# EAGLE library part SILICONLABS-BGM111 (library FaBo-BT)
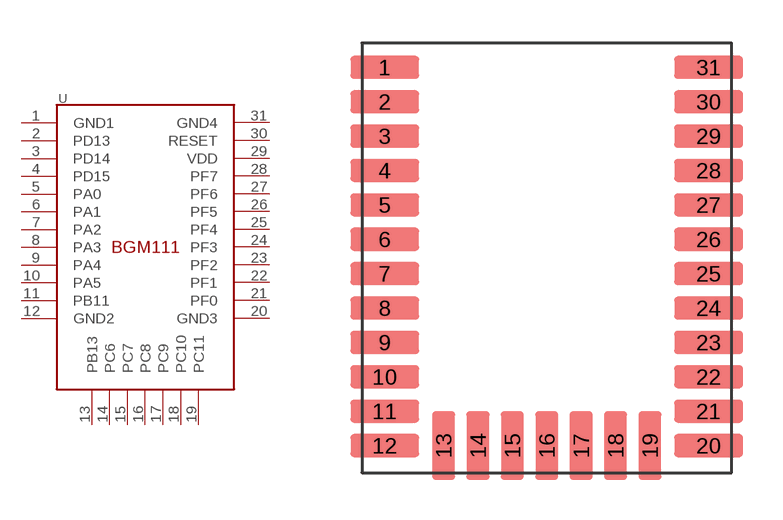
[diagram p8: symbol with the pads of SILICONLABS-BGM111; footprint SILICONLABS-BGM111]

Designator prefix -

## SILICONLABS-BGM111  [SILICONLABS-BGM111]
1  GND1
2  PD13
3  PD14
4  PD15
5  PA0
6  PA1
7  PA2
8  PA3
9  PA4
10  PA5
11  PB11
12  GND2
13  PB13
14  PC6
15  PC7
16  PC8
17  PC9
18  PC10
19  PC11
20  GND3
21  PF0
22  PF1
23  PF2
24  PF3
25  PF4
26  PF5
27  PF6
28  PF7
29  VDD
30  RESET
31  GND4

## Footprint SILICONLABS-BGM111 (pad centres in mm)
smd 2.4 x 0.8: 1 -5.65,6.65; 2 -5.65,5.45; 3 -5.65,4.25; 4 -5.65,3.05; 5 -5.65,1.85; 6 -5.65,0.65; 7 -5.65,-0.55; 8 -5.65,-1.75; 9 -5.65,-2.95; 10 -5.65,-4.15; 11 -5.65,-5.35; 12 -5.65,-6.55; 20 5.65,-6.55; 21 5.65,-5.35; 22 5.65,-4.15; 23 5.65,-2.95; 24 5.65,-1.75; 25 5.65,-0.55; 26 5.65,0.65; 27 5.65,1.85; 28 5.65,3.05; 29 5.65,4.25; 30 5.65,5.45; 31 5.65,6.65
smd 0.8 x 2.4: 13 -3.6,-6.55; 14 -2.4,-6.55; 15 -1.2,-6.55; 16 0,-6.55; 17 1.2,-6.55; 18 2.4,-6.55; 19 3.6,-6.55